# Altium footprint library QFN69P35_700X700X75L40X15T549N.PcbLib: 1 footprints
Each footprint in its own frame and in the unit in brackets; x right, y up, seen from the top. Pads: shape width x height; smd on the part's side, far side on the other; paste and mask are expansions set on the pad; w line width, h text height; cw(c..) or ccw(c..) is an arc to the next point about the centre after c.
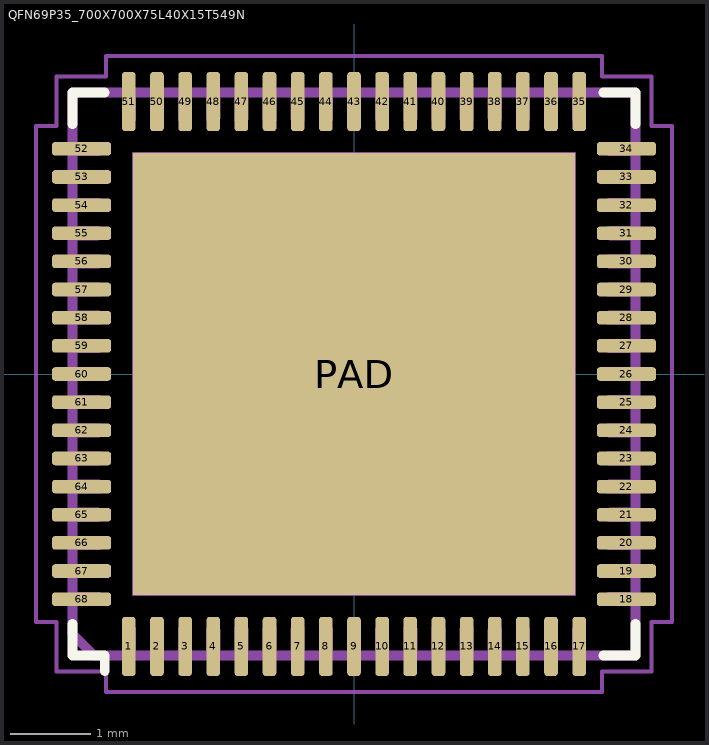
[diagram p0: the footprint, top view; thin cyan lines are the x and y axes]

## QFN69P35_700X700X75L40X15T549N [mm] "Quad Flat No-Lead (QFN) with Thermal Tab, 0.35 mm pitch;  square, 17 pin X 17 pin, 7.00 mm L X 7.00 mm W X 0.80 mm H Body"
height 0.8
pads (69):
  rrect49% 0.17x0.737 smd: 1(-2.8,-3.387) 2(-2.45,-3.387) 3(-2.1,-3.387) 4(-1.75,-3.387) 5(-1.4,-3.387) 6(-1.05,-3.387) 7(-0.7,-3.387) 8(-0.35,-3.387) 9(0,-3.387) 10(0.35,-3.387) 11(0.7,-3.387) 12(1.05,-3.387) 13(1.4,-3.387) 14(1.75,-3.387) 15(2.1,-3.387) 16(2.45,-3.387) 17(2.8,-3.387) 35(2.8,3.387) 36(2.45,3.387) 37(2.1,3.387) 38(1.75,3.387) 39(1.4,3.387) 40(1.05,3.387) 41(0.7,3.387) 42(0.35,3.387) 43(0,3.387) 44(-0.35,3.387) 45(-0.7,3.387) 46(-1.05,3.387) 47(-1.4,3.387) 48(-1.75,3.387) 49(-2.1,3.387) 50(-2.45,3.387) 51(-2.8,3.387)
  rrect49% 0.737x0.17 smd: 18(3.387,-2.8) 19(3.387,-2.45) 20(3.387,-2.1) 21(3.387,-1.75) 22(3.387,-1.4) 23(3.387,-1.05) 24(3.387,-0.7) 25(3.387,-0.35) 26(3.387,0) 27(3.387,0.35) 28(3.387,0.7) 29(3.387,1.05) 30(3.387,1.4) 31(3.387,1.75) 32(3.387,2.1) 33(3.387,2.45) 34(3.387,2.8) 52(-3.387,2.8) 53(-3.387,2.45) 54(-3.387,2.1) 55(-3.387,1.75) 56(-3.387,1.4) 57(-3.387,1.05) 58(-3.387,0.7) 59(-3.387,0.35) 60(-3.387,0) 61(-3.387,-0.35) 62(-3.387,-0.7) 63(-3.387,-1.05) 64(-3.387,-1.4) 65(-3.387,-1.75) 66(-3.387,-2.1) 67(-3.387,-2.45) 68(-3.387,-2.8)
  rect 5.49x5.49 smd paste-5.49: PAD(0,0)
Top Overlay:
  lines w0.12: -3.5,-3.105 -3.5,-3.5 -3.1,-3.5 -3.1,-3.696 ; -3.5,3.105 -3.5,3.5 -3.1,3.5 ; 3.1,-3.5 3.5,-3.5 3.5,-3.105 ; 3.1,3.5 3.5,3.5 3.5,3.105
Top Paste:
  region: -1.183,1.183 -2.477,1.183 -2.477,2.477 -1.183,2.477
  region: -1.183,-0.647 -2.477,-0.647 -2.477,0.647 -1.183,0.647
  region: -1.183,-2.477 -2.477,-2.477 -2.477,-1.183 -1.183,-1.183
  region: 0.647,1.183 -0.647,1.183 -0.647,2.477 0.647,2.477
  region: 0.647,-0.647 -0.647,-0.647 -0.647,0.647 0.647,0.647
  region: 0.647,-2.477 -0.647,-2.477 -0.647,-1.183 0.647,-1.183
  region: 2.477,1.183 1.183,1.183 1.183,2.477 2.477,2.477
  region: 2.477,-0.647 1.183,-0.647 1.183,0.647 2.477,0.647
  region: 2.477,-2.477 1.183,-2.477 1.183,-1.183 2.477,-1.183
Mechanical 3:
  lines w0.12: -3.5,-3.231 -3.5,3.5 3.5,3.5 3.5,-3.5 -3.231,-3.5 -3.5,-3.231
Mechanical 5:
  drawing of 280 lines, arcs and shapes, not listed
Mechanical 7:
  circle w0.05: c0,0 r0.25
  lines w0.05: -0.35,0 0.35,0 ; 0,-0.35 0,0.35 ; -3.956,-3.085 -3.7,-3.085 -3.7,-3.7 -3.085,-3.7 -3.085,-3.956 3.085,-3.956 3.085,-3.7 3.7,-3.7 3.7,-3.085 3.956,-3.085 3.956,3.085 3.7,3.085 3.7,3.7 3.085,3.7 3.085,3.956 -3.085,3.956 -3.085,3.7 -3.7,3.7 -3.7,3.085 -3.956,3.085 -3.956,-3.085
Mechanical 9:
  text "'.Designator'" at -5.817,-0.271 h1.02
3D body "QFN69P35_700X700X75L40X15T549.STEP": height 0.8, standoff 0, extent -3.55,-3.55 3.55,3.55
3D body: height 0.8, standoff 0, extent -3.956,-3.956 3.956,3.956